# Altium schematic symbol library WB_POWER_CHIP.SchLib: 2 symbols
Pins are listed as number, name and electrical type; pins without a type are passive.

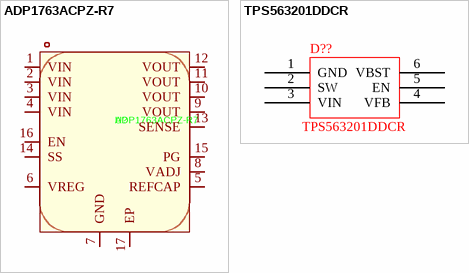
[diagram p0: symbols ADP1763ACPZ-R7 to TPS563201DDCR]

## ADP1763ACPZ-R7
designator U?
Manufacturer: ADI(亚德诺); Add into BOM: yes; Output Type: 可调; Maximum Input Voltage: 1.98V; Output Voltage: 500mV~1.5V; Output Current: 3A; Power Supply Rejection Ratio (PSRR): 62dB@(10kHz)；33dB@(1MHz); Dropout Voltage: 145mV@(3A); standby current: 8mA; Output Polarity: 正极; Number of Outputs: 1; Symbol: ADP1763ACPZ-R7; Device: ADP1763ACPZ-R7; LCSC Part Name: 3 A、低VIN、低噪声、CMOS线性稳压器; Supplier Part: C459708; Manufacturer Part: ADP1763ACPZ-R7; Supplier Footprint: LFCSP-16(3x3); JLCPCB Part Class: Extended Part; Datasheet: https://atta.szlcsc.com/upload/public/pdf/source/20191223/C459708_5924AD72663FA3EB547BCDF63D5A9F53.pdf; Supplier: LCSC; Convert to PCB: yes; Feature: 防静电保护；浪涌保护；短路保护；低ESR；热保护(TSD)；过流保护(OCP)；带使能; Operating Temperature: -40℃~+125℃@(Tj)
footprint LFCSP-16_L3.0-W3.0-P0.50-BL-EP1.7
3D model LFCSP-16_L3.0-W3.0-H0.8-P0.50-BL-EP1.7
pins: 1 VIN, 2 VIN, 3 VIN, 4 VIN, 5 REFCAP, 6 VREG, 7 GND, 8 VADJ, 9 VOUT, 10 VOUT, 11 VOUT, 12 VOUT, 13 SENSE, 14 SS, 15 PG, 16 EN, 17 EP

## TPS563201DDCR
designator D??
型号: TPS563201DDCR
pins: 1 GND, 2 SW, 3 VIN, 4 VFB, 5 EN, 6 VBST